# Altium schematic symbol library L944-UV265-2-20.SchLib: 1 symbol
Pins are listed as number, name and electrical type; pins without a type are passive.

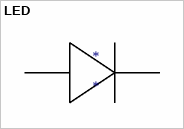
[diagram p0: symbol LED]

## LED
designator *
footprint L944-UV265-2-20
pins: 1, 2, 3